# EAGLE library part RNET4I (library DAC)
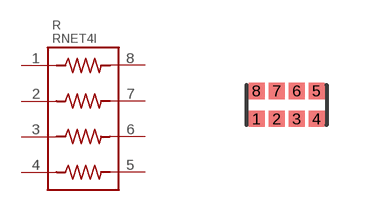
[diagram p35: symbol with the pads of EXBN8V; footprint EXBN8V]

Designator prefix R

## RNET4I  [EXBN8V]
1  1  pas
2  2  pas
3  3  pas
4  4  pas
5  5  pas
6  6  pas
7  7  pas
8  8  pas

## Footprint EXBN8V (pad centres in mm)
smd 0.4 x 0.4: 1 -0.75,-0.35; 2 -0.25,-0.35; 3 0.25,-0.35; 4 0.75,-0.35; 5 0.75,0.35; 6 0.25,0.35; 7 -0.25,0.35; 8 -0.75,0.35